# EAGLE library part ISO6731 (library Isolator)
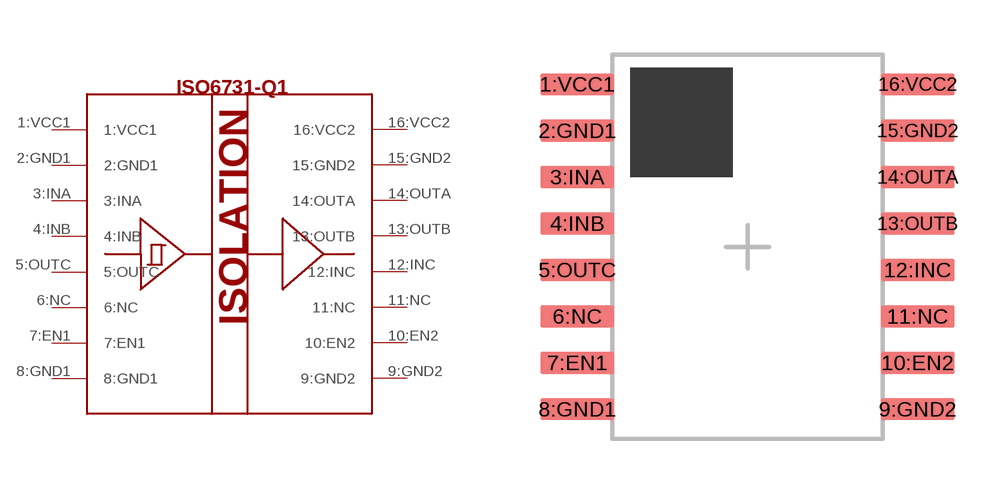
[diagram p1: symbol with the pads of ISO6731FQDWRQ1; footprint ISO6731FQDWRQ1]

Designator prefix -

## ISO6731  [ISO6731FQDWRQ1]
1:VCC1  1:VCC1
2:GND1  2:GND1
3:INA  3:INA
4:INB  4:INB
5:OUTC  5:OUTC
6:NC  6:NC
7:EN1  7:EN1
8:GND1  8:GND1
9:GND2  9:GND2
10:EN2  10:EN2
11:NC  11:NC
12:INC  12:INC
13:OUTB  13:OUTB
14:OUTA  14:OUTA
15:GND2  15:GND2
16:VCC2  16:VCC2

## Footprint ISO6731FQDWRQ1 (pad centres in mm)
smd 2 x 0.6: 1:VCC1 -4.65,4.445; 2:GND1 -4.65,3.175; 3:INA -4.65,1.905; 4:INB -4.65,0.635; 5:OUTC -4.65,-0.635; 6:NC -4.65,-1.905; 7:EN1 -4.65,-3.175; 8:GND1 -4.65,-4.445; 9:GND2 4.65,-4.445; 10:EN2 4.65,-3.175; 11:NC 4.65,-1.905; 12:INC 4.65,-0.635; 13:OUTB 4.65,0.635; 14:OUTA 4.65,1.905; 15:GND2 4.65,3.175; 16:VCC2 4.65,4.445